# Altium footprint library CONV_SPBW06F-12.PcbLib: 1 footprints
Each footprint in its own frame and in the unit in brackets; x right, y up, seen from the top. Pads: shape width x height; smd on the part's side, far side on the other; paste and mask are expansions set on the pad; w line width, h text height; cw(c..) or ccw(c..) is an arc to the next point about the centre after c.
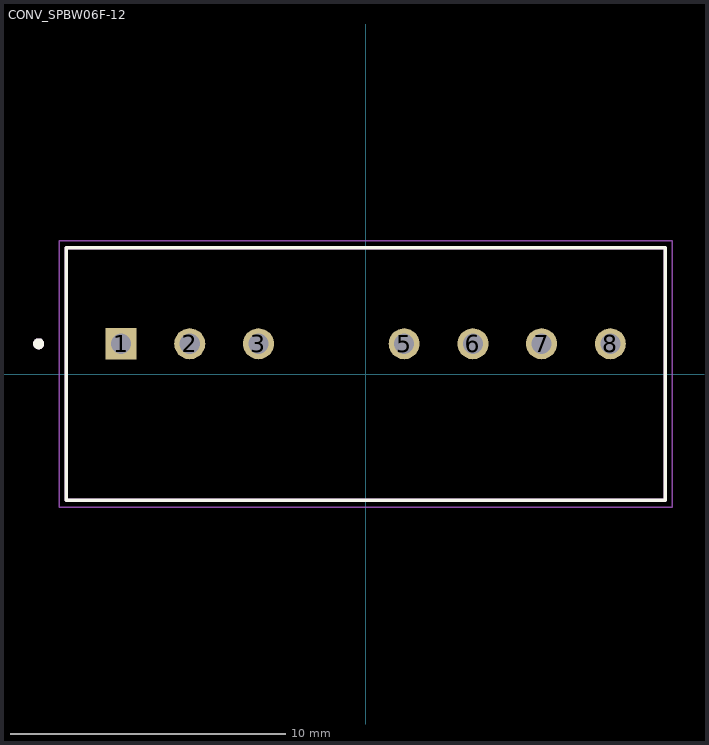
[diagram p0: the footprint, top view; thin cyan lines are the x and y axes]

## CONV_SPBW06F-12 [mm]
height 11.1
pads (7):
  rect 1.13x1.13 / inner round 1.13 / far side rect 1.13x1.13 hole 0.73: 1(-8.9,1.1)
  round 1.13 hole 0.73: 2(-6.4,1.1) 3(-3.9,1.1) 5(1.4,1.1) 6(3.9,1.1) 7(6.4,1.1) 8(8.9,1.1)
Top Overlay:
  circle w0.2: c-11.9,1.1 r0.1
  lines w0.127: -10.9,-4.6 -10.9,4.6 10.9,4.6 10.9,-4.6 -10.9,-4.6
Assembly Top:
  circle w0.2: c-11.9,1.1 r0.1
  lines w0.127: -10.9,-4.6 -10.9,4.6 10.9,4.6 10.9,-4.6 -10.9,-4.6
Courtyard Top:
  lines w0.05: -11.15,-4.85 -11.15,4.85 11.15,4.85 11.15,-4.85 -11.15,-4.85
3D body "step_temp.STEP": height 11.1, standoff -3.81, extent -10.9,-4.6 10.9,4.6